# Altium footprint library 7447706151.PcbLib: 1 footprints
Each footprint in its own frame and in the unit in brackets; x right, y up, seen from the top. Pads: shape width x height; smd on the part's side, far side on the other; paste and mask are expansions set on the pad; w line width, h text height; cw(c..) or ccw(c..) is an arc to the next point about the centre after c.
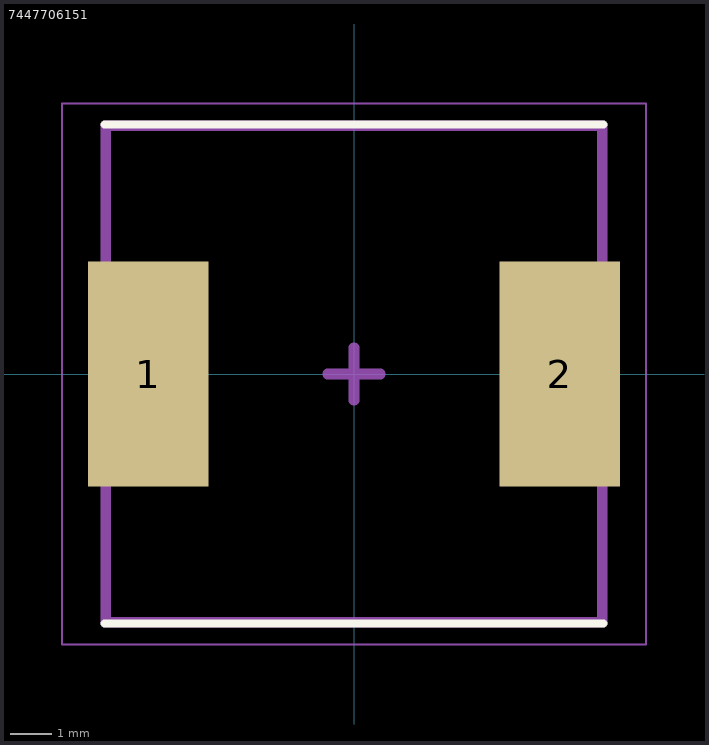
[diagram p0: the footprint, top view; thin cyan lines are the x and y axes]

## 7447706151 [mm]
height 6
pads (2):
  rect 2.9x5.4 smd: 1(-4.95,0) 2(4.95,0)
Top Overlay:
  lines w0.2: -6,-6 6,-6 ; -6,6 6,6
Top Assembly:
  lines w0.254: -5.969,-5.969 5.969,-5.969 5.969,5.969 -5.969,5.969 -5.969,-5.969
Mechanical 15:
  lines w0.1: -6,-6 -6,6 6,6 6,-6 -6,-6
  lines w0.254: -0.635,0 0.635,0 ; 0,-0.635 0,0.635
Mechanical 20:
  lines w0.05: -7.025,-6.5 -7.025,6.5 7.025,6.5 7.025,-6.5 -7.025,-6.5
3D body "7447706331.stp": height 6, standoff 0, extent -6,-6 6,6